# Altium footprint library 28Pins_Project_V1I1.PcbLib: 11 footprints
Each footprint in its own frame and in the unit in brackets; x right, y up, seen from the top. Pads: shape width x height; smd on the part's side, far side on the other; paste and mask are expansions set on the pad; w line width, h text height; cw(c..) or ccw(c..) is an arc to the next point about the centre after c.
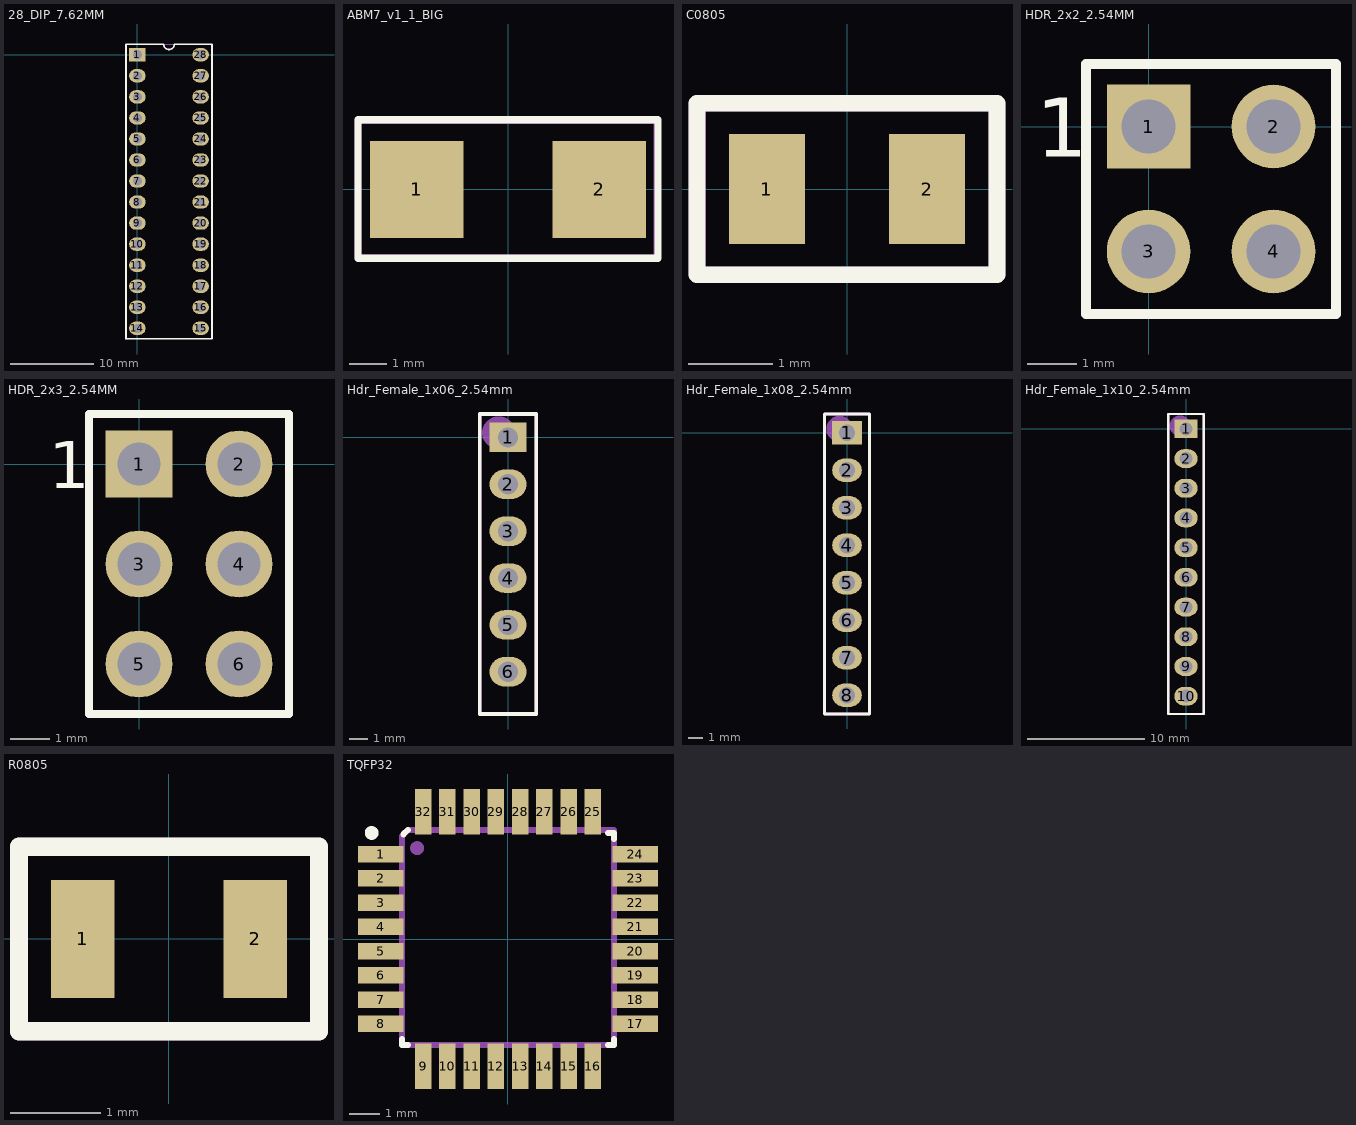
[diagram p0: the footprints below, top view; thin cyan lines are the x and y axes]

## 28_DIP_7.62MM [mm]
pads (28):
  rect 2x1.6 hole 1.1: 1(0,0)
  oval 2x1.6 hole 1.1: 2(0,-2.54) 3(0,-5.08) 4(0,-7.62) 5(0,-10.16) 6(0,-12.7) 7(0,-15.24) 8(0,-17.78) 9(0,-20.32) 10(0,-22.86) 11(0,-25.4) 12(0,-27.94) 13(0,-30.48) 14(0,-33.02) 15(7.62,-33.02) 16(7.62,-30.48) 17(7.62,-27.94) 18(7.62,-25.4) 19(7.62,-22.86) 20(7.62,-20.32) 21(7.62,-17.78) 22(7.62,-15.24) 23(7.62,-12.7) 24(7.62,-10.16) 25(7.62,-7.62) 26(7.62,-5.08) 27(7.62,-2.54) 28(7.62,0)
Top Overlay:
  lines w0.2: -1.39,-34.29 -1.39,1.27 3.175,1.27 ccw(c3.81,1.27) 4.445,1.27 9.01,1.27 9.01,-34.29 -1.39,-34.29
Mechanical 29:
  circle w0.7: c0.01,-0.01 r0.141
  lines w0.1: -1.39,-34.31 -1.29,-34.21 9.01,-34.21 9.01,1.29 -1.39,1.29 -1.39,-34.31
  text "'.Designator'" at 4.31,-14.41 h1.2
3D body "User Library-28 pin dip-1.STEP": height 4.85, standoff -1.37, extent -0.09,-34.381 7.784,1.56

## ABM7_v1_1_BIG [mm]
pads (2):
  rect 2.5x2.6 smd: 1(-2.45,0) 2(2.45,0)
Top Overlay:
  lines w0.2: -4.025,-1.85 4.025,-1.85 4.025,1.875 -4.025,1.875 -4.025,-1.85
Mechanical 29:
  lines w0.2: -4.025,-1.85 4,-1.85 4,1.825 3.975,1.85 -4,1.85 -4.025,1.875 -4.025,-1.85
  text "'.Designator'" at -3.625,-0.3 h1.2
3D body "ABM7.STEP": height 1.41, standoff 0.01, extent -2.947,-1.702 3.047,1.803

## C0805 [mm]
pads (2):
  rect 0.9x1.3 smd: 1(-0.95,0) 2(0.95,0)
Top Overlay:
  lines w0.2: -1.778,-1.016 -1.778,-0.556 ; -1.778,-1.016 -1.778,-0.556 ; -1.778,-1.016 1.778,-1.016 1.778,1.016 -1.778,1.016 -1.778,0.064 -1.778,-0.524 -1.778,-0.556
Mechanical 29:
  lines w0.2: -1.778,-1.016 1.778,-1.016 1.778,1.016 -1.778,1.016 -1.778,-1.016
  text "'.Designator'" at -1.578,-0.416 h1.2
3D body "CAPC2012X94N EIA 0805.step": height 0.94, standoff 0, extent -1,-0.6 1,0.6
3D body "CAPC2012X94N EIA 0805.step": height 1.44, standoff 0.5, extent -1,-0.6 1,0.6

## HDR_2x2_2.54MM [mm]
pads (4):
  rect 1.7x1.7 hole 1.1: 1(0,0)
  round 1.7 hole 1.1: 2(2.54,0) 3(0,-2.54) 4(2.54,-2.54)
Top Overlay:
  lines w0.2: 0.635,1.27 3.81,1.27 3.81,-3.81 -1.27,-3.81 -1.27,1.27 1.905,1.27
  text "1" at -2.289,-0.613 h1.2
Mechanical 29:
  circle w0.508: c0,0 r0.254
  lines w0.2: -1.27,-3.81 -1.27,1.27 3.81,1.27 3.81,-3.81 -1.27,-3.81
  text "'.Designator'" at -1.07,-3.21 h1.2
3D body "961204-6404-XX.stp": height 8.08, standoff -3.22, extent -1.27,-3.81 3.73,1.27

## HDR_2x3_2.54MM [mm]
pads (6):
  rect 1.7x1.7 hole 1.1: 1(0,0)
  round 1.7 hole 1.1: 2(2.54,0) 3(0,-2.54) 4(2.54,-2.54) 5(0,-5.08) 6(2.54,-5.08)
Top Overlay:
  lines w0.2: 0.635,1.27 3.81,1.27 3.81,-6.35 -1.27,-6.35 -1.27,1.27 1.905,1.27
  text "1" at -2.289,-0.613 h1.2
Mechanical 29:
  circle w0.508: c0,0 r0.254
  lines w0.2: -1.27,-6.35 3.81,-6.35 3.81,1.27 -1.27,1.27 -1.27,-6.35
  text "'.Designator'" at -1.07,-3.21 h1.2
3D body "961206-6404-XX.stp": height 8.08, standoff -3.22, extent -1.23,-6.35 3.77,1.27

## Hdr_Female_1x06_2.54mm [mm]
pads (6):
  rect 2x1.6 hole 1.1: 1(0,0)
  oval 2x1.6 hole 1.1: 2(0,-2.54) 3(0,-5.08) 4(0,-7.62) 5(0,-10.16) 6(0,-12.7)
Top Overlay:
  lines w0.2: -1.524,-14.986 -1.524,1.27 1.524,1.27 1.524,-14.986 1.27,-14.986 0.572,-14.986 -0.826,-14.986 -1.524,-14.986
Mechanical 29:
  circle w1.27: c-0.508,0.254 r0.254
  lines w0.2: -1.524,-14.986 -1.524,1.27 1.524,1.27 1.524,-14.986 -1.524,-14.986
  text "'.Designator'" at 0.162,-14.532 h1.2
3D body "m20-7820646_asm.stp": height 8.89, standoff -2.61, extent -1.25,-14.116 1.25,1.524

## Hdr_Female_1x08_2.54mm [mm]
pads (8):
  rect 2x1.6 hole 1.1: 1(0,0)
  oval 2x1.6 hole 1.1: 2(0,-2.54) 3(0,-5.08) 4(0,-7.62) 5(0,-10.16) 6(0,-12.7) 7(0,-15.24) 8(0,-17.78)
Top Overlay:
  lines w0.2: -1.524,-18.796 -1.524,-19.05 ; -1.524,-19.05 -1.524,1.27 1.524,1.27 1.524,-19.05 1.27,-19.05 0.572,-19.05 -0.826,-19.05 -1.524,-19.05
Mechanical 29:
  circle w1.27: c-0.508,0.254 r0.254
  lines w0.2: -1.524,-19.05 -1.524,1.27 1.524,1.27 1.524,-19.05 -1.524,-19.05
  text "'.Designator'" at 0.416,-17.58 h1.2
  text "'.Designator'" at 0.416,-17.58 h1.2
3D body "m20-7820842_asm.stp": height 8.89, standoff -2.61, extent -1.23,-19.25 1.27,1.47

## Hdr_Female_1x10_2.54mm [mm]
pads (10):
  rect 2x1.6 hole 1.1: 1(0,0)
  oval 2x1.6 hole 1.1: 2(0,-2.54) 3(0,-5.08) 4(0,-7.62) 5(0,-10.16) 6(0,-12.7) 7(0,-15.24) 8(0,-17.78) 9(0,-20.32) 10(0,-22.86)
Top Overlay:
  lines w0.2: -1.524,-24.384 1.27,-24.384 1.524,-24.384 1.524,1.27 -1.524,1.27 -1.524,-24.13 -1.524,-24.384
Mechanical 29:
  circle w1.27: c-0.508,0.254 r0.254
  lines w0.2: -1.524,-24.384 1.524,-24.384 1.524,1.27 -1.524,1.27 -1.524,-24.384
  text "'.Designator'" at 0.416,-17.58 h1.2
  text "'.Designator'" at 0.416,-17.58 h1.2
3D body "m20-7821046_asm.stp": height 8.89, standoff -2.61, extent -1.25,-24.384 1.25,1.416

## PCBComponent_1 [mm]

## R0805 [mm]
pads (2):
  rect 0.7x1.3 smd: 1(-0.95,0) 2(0.95,0)
Top Overlay:
  lines w0.2: -1.651,-1.016 -1.651,1.016 1.651,1.016 1.651,-1.016 -1.651,-1.016
Mechanical 29:
  lines w0.2: -1.651,-1.016 -1.651,1.016 1.651,1.016 1.651,-1.016 -1.651,-1.016
  text "'.Designator'" at -1.451,-0.416 h1.2
3D body "RC0805N.step": height 0.71, standoff 0, extent -1,-0.6 1,0.6

## TQFP32 [mm]
pads (32):
  rect 1.5x0.55 smd mask+0.06: 1(-4.2,2.8) 2(-4.2,2) 3(-4.2,1.2) 4(-4.2,0.4) 5(-4.2,-0.4) 6(-4.2,-1.2) 7(-4.2,-2) 8(-4.2,-2.8) 17(4.2,-2.8) 18(4.2,-2) 19(4.2,-1.2) 20(4.2,-0.4) 21(4.2,0.4) 22(4.2,1.2) 23(4.2,2) 24(4.2,2.8)
  rect 0.55x1.5 smd mask+0.06: 9(-2.8,-4.2) 10(-2,-4.2) 11(-1.2,-4.2) 12(-0.4,-4.2) 13(0.4,-4.2) 14(1.2,-4.2) 15(2,-4.2) 16(2.8,-4.2) 25(2.8,4.2) 26(2,4.2) 27(1.2,4.2) 28(0.4,4.2) 29(-0.4,4.2) 30(-1.2,4.2) 31(-2,4.2) 32(-2.8,4.2)
Top Overlay:
  circle w0.254: c-4.5,3.5 r0.1
  lines w0.2: -3.3,-3.5 -3.5,-3.5 ; 3.3,3.5 3.5,3.5 ; 3.5,-3.3 3.5,-3.5 ; -3.5,-3.5 -3.5,-3.3 -3.5,-3.5 ; 3.5,-3.5 3.3,-3.5 3.5,-3.5 ; 3.5,3.5 3.5,3.3 3.5,3.5 ; -3.45,3.45 -3.3,3.6 -3.45,3.45
Mechanical 29:
  circle w0.254: c-3,3 r0.1
  lines w0.2: -3.5,-3.5 -3.5,3.4 -3.3,3.6 3.5,3.6 3.5,-3.5 -3.5,-3.5
  text "'.Designator'" at 0.4,-2.8 h1.2
3D body "User Library-TQFP32-1.STEP": height 1.1, standoff 0, extent -4.509,-4.517 4.509,4.5